# EAGLE library part LT4120 (library custom parts)
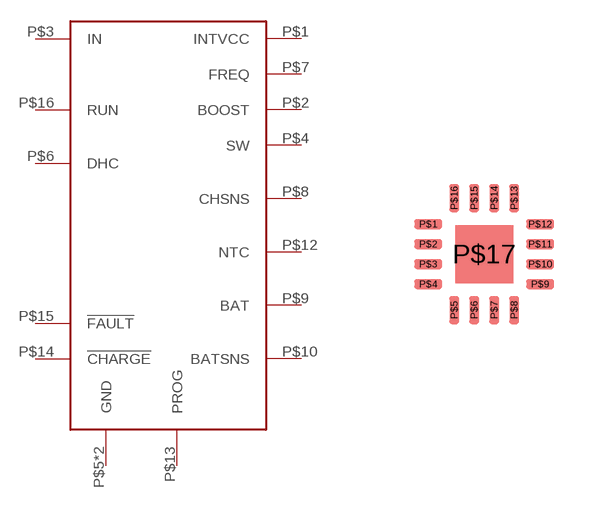
[diagram p0: symbol with the pads of QFN16; footprint QFN16]

Designator prefix -

## LT4120  [QFN16]
P$1  INTVCC
P$2  BOOST
P$3  IN  sup
P$4  SW
P$5  GND  sup
P$6  DHC
P$7  FREQ
P$8  CHSNS
P$9  BAT
P$10  BATSNS
P$12  NTC
P$13  PROG
P$14  !CHARGE
P$15  !FAULT
P$16  RUN
P$17  GND  sup

## Footprint QFN16 (pad centres in mm)
smd 0.7 x 0.25: P$1 -1.4,0.75; P$2 -1.4,0.25; P$3 -1.4,-0.25; P$4 -1.4,-0.75; P$9 1.4,-0.75; P$10 1.4,-0.25; P$11 1.4,0.25; P$12 1.4,0.75
smd 0.25 x 0.7: P$5 -0.75,-1.4; P$6 -0.25,-1.4; P$7 0.25,-1.4; P$8 0.75,-1.4; P$13 0.75,1.4; P$14 0.25,1.4; P$15 -0.25,1.4; P$16 -0.75,1.4
smd 1.45 x 1.45: P$17 0,0